# EAGLE library part 0022272061 (library volks73-Molex)
KK® 254 Wire-to-Board Header, Vertical, with Friction Lock, 6 Circuits, Tin (Sn) Plating KK® Interconnect System Documentation Drawing <http://www.molex.com/pdm_docs/sd/022272061_sd.pdf> Product Specification <http://www.molex.com/pdm_docs/ps/PS-99020-0088.pdf>
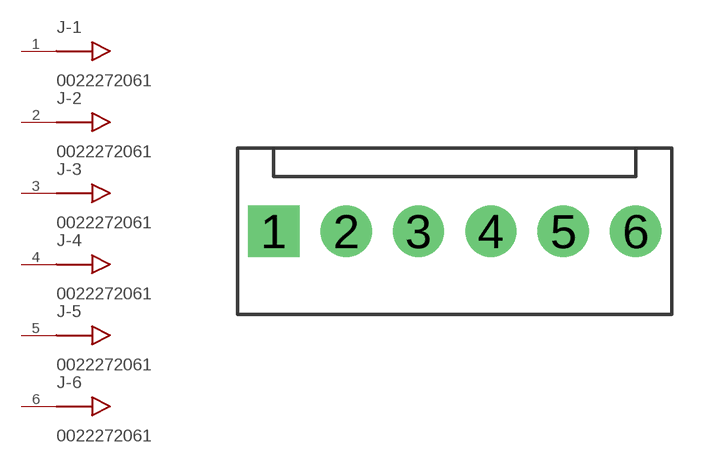
[diagram p0: symbol with the pads of KK6410-2061_6-PIN; footprint KK6410-2061_6-PIN]

Designator prefix J; gates -1=MALE_CONNECTOR -2=MALE_CONNECTOR -3=MALE_CONNECTOR -4=MALE_CONNECTOR -5=MALE_CONNECTOR -6=MALE_CONNECTOR

## 0022272061 (COLOR: Natural; CONNECTOR_TYPE: Header, Unshrouded; CONTACT_FINISH: Tin; CONTACT_FINISH_THICKNESS: 100uin (2.54um); CONTACT_MATING_LENGTH: 0.295" (7.49mm); CONTACT_TYPE: Male Pin; DESCRIPTION: CONN HEADER 6POS .100 VERT TIN; DOCUMENTATION_LINK: <a href="http://www.molex.com/pdm_docs/sd/022272061_sd.pdf">Datasheet</a>; DOCUMENTATION_URL: http://www.molex.com/pdm_docs/sd/022272061_sd.pdf; FASTENING_TYPE: Friction Lock; FEATURES: -; MANUFACTURER: Molex Inc; MOUNTING_TYPE: Through Hole; NUMBER_OF_POSITIONS: 6; NUMBER_OF_POSITIONS_LOADED: All; NUMBER_OF_ROWS: 1; PART_NUMBER: 0022272061; PITCH: 0.100" (2.54mm); ROW_SPACING: -; SERIES: 6410; SUPPLIER_ITEM_LINK: <a href="http://www.digikey.com/product-search/en?KeyWords=WM4115-ND&WT.z_header=search_go">Details</a>; SUPPLIER_ITEM_NUMBER: WM4115-ND; SUPPLIER_ITEM_URL: http://www.digikey.com/product-search/en?KeyWords=WM4115-ND&WT.z_header=search_go; SUPPLIER_LINK: <a href="http://www.digikey.com">Home Page</a>; SUPPLIER_NAME: Digi-Key; SUPPLIER_URL: http://www.digikey.com; TERMINATION: Solder)  [KK6410-2061_6-PIN]
1  -1:P$1
2  -2:P$1
3  -3:P$1
4  -4:P$1
5  -5:P$1
6  -6:P$1

## Footprint KK6410-2061_6-PIN (pad centres in mm)
KK 6410 Series 6-Pin Vertical Header with Friction Lock Single Row, 0.100" (2.54mm) Pitch
drill 1.2 square: 1 -6.35,0
drill 1.2: 2 -3.81,0; 3 -1.27,0; 4 1.27,0; 5 3.81,0; 6 6.35,0